# EAGLE library part FT232H (library ftdi)
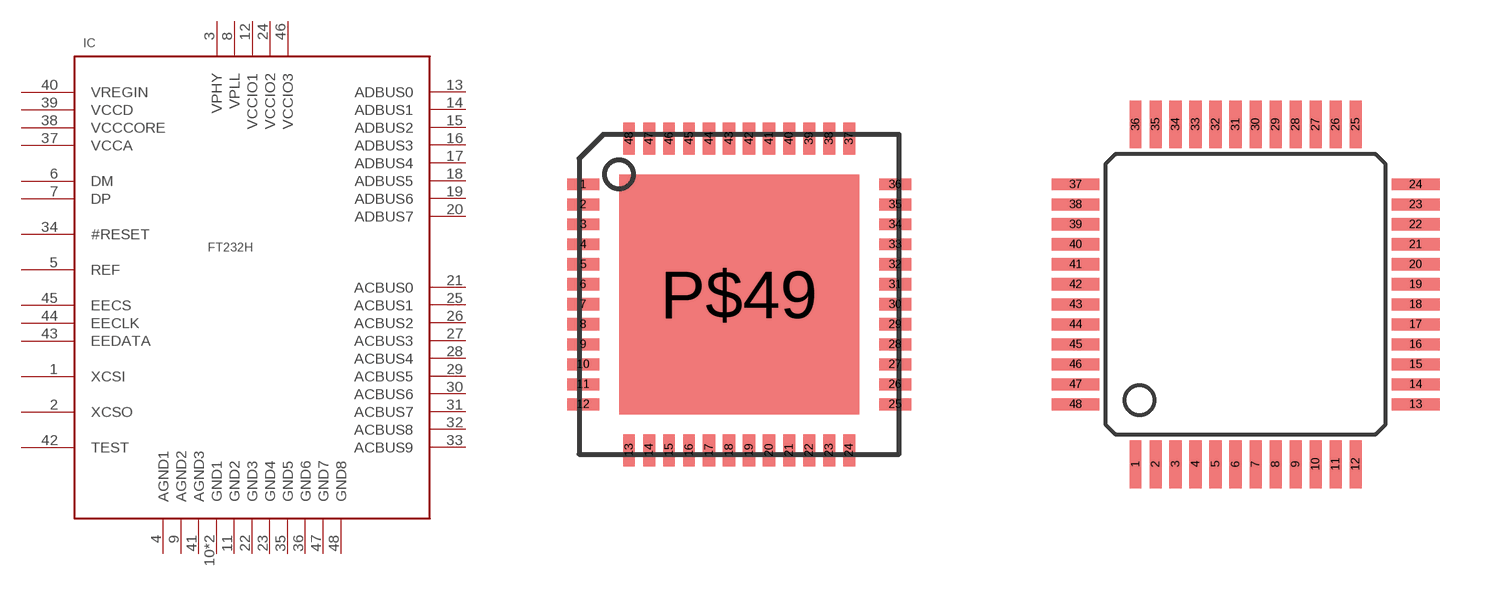
[diagram p0: symbol with the pads of QFN48-8X8; footprints QFN48-8X8, QFP48-7X7]

Designator prefix IC

## FT232H_QFN48  [QFN48-8X8]
1  XCSI  in
2  XCSO  out
3  VPHY  pwr
4  AGND1  pwr
5  REF  in
6  DM
7  DP
8  VPLL  pwr
9  AGND2  pwr
10  GND1  pwr
11  GND2  pwr
12  VCCIO1  pwr
13  ADBUS0  out
14  ADBUS1  in
15  ADBUS2  out
16  ADBUS3  in
17  ADBUS4  out
18  ADBUS5  in
19  ADBUS6  in
20  ADBUS7  in
21  ACBUS0
22  GND3  pwr
23  GND4  pwr
24  VCCIO2  pwr
25  ACBUS1
26  ACBUS2
27  ACBUS3
28  ACBUS4
29  ACBUS5
30  ACBUS6
31  ACBUS7
32  ACBUS8
33  ACBUS9
34  #RESET  in
35  GND5  pwr
36  GND6  pwr
37  VCCA  pwr
38  VCCCORE  pwr
39  VCCD  pwr
40  VREGIN  pwr
41  AGND3  pwr
42  TEST  in
43  EEDATA
44  EECLK  out
45  EECS
46  VCCIO3  pwr
47  GND7  pwr
48  GND8  pwr
P$49  GND1  pwr

## FT232H_QFP48  [QFP48-7X7]
1  XCSI  in
2  XCSO  out
3  VPHY  pwr
4  AGND1  pwr
5  REF  in
6  DM
7  DP
8  VPLL  pwr
9  AGND2  pwr
10  GND1  pwr
11  GND2  pwr
12  VCCIO1  pwr
13  ADBUS0  out
14  ADBUS1  in
15  ADBUS2  out
16  ADBUS3  in
17  ADBUS4  out
18  ADBUS5  in
19  ADBUS6  in
20  ADBUS7  in
21  ACBUS0
22  GND3  pwr
23  GND4  pwr
24  VCCIO2  pwr
25  ACBUS1
26  ACBUS2
27  ACBUS3
28  ACBUS4
29  ACBUS5
30  ACBUS6
31  ACBUS7
32  ACBUS8
33  ACBUS9
34  #RESET  in
35  GND5  pwr
36  GND6  pwr
37  VCCA  pwr
38  VCCCORE  pwr
39  VCCD  pwr
40  VREGIN  pwr
41  AGND3  pwr
42  TEST  in
43  EEDATA
44  EECLK  out
45  EECS
46  VCCIO3  pwr
47  GND7  pwr
48  GND8  pwr

## Footprint QFN48-8X8 (pad centres in mm)
smd 0.8 x 0.3: 1 -3.9,2.75; 2 -3.9,2.25; 3 -3.9,1.75; 4 -3.9,1.25; 5 -3.9,0.75; 6 -3.9,0.25; 7 -3.9,-0.25; 8 -3.9,-0.75; 9 -3.9,-1.25; 10 -3.9,-1.75; 11 -3.9,-2.25; 12 -3.9,-2.75; 25 3.9,-2.75; 26 3.9,-2.25; 27 3.9,-1.75; 28 3.9,-1.25; 29 3.9,-0.75; 30 3.9,-0.25; 31 3.9,0.25; 32 3.9,0.75; 33 3.9,1.25; 34 3.9,1.75; 35 3.9,2.25; 36 3.9,2.75
smd 0.3 x 0.8: 13 -2.75,-3.9; 14 -2.25,-3.9; 15 -1.75,-3.9; 16 -1.25,-3.9; 17 -0.75,-3.9; 18 -0.25,-3.9; 19 0.25,-3.9; 20 0.75,-3.9; 21 1.25,-3.9; 22 1.75,-3.9; 23 2.25,-3.9; 24 2.75,-3.9; 37 2.75,3.9; 38 2.25,3.9; 39 1.75,3.9; 40 1.25,3.9; 41 0.75,3.9; 42 0.25,3.9; 43 -0.25,3.9; 44 -0.75,3.9; 45 -1.25,3.9; 46 -1.75,3.9; 47 -2.25,3.9; 48 -2.75,3.9
smd 6 x 6: P$49 0,0

## Footprint QFP48-7X7 (pad centres in mm)
smd 0.3 x 1.2: 1 -2.75,-4.25; 2 -2.25,-4.25; 3 -1.75,-4.25; 4 -1.25,-4.25; 5 -0.75,-4.25; 6 -0.25,-4.25; 7 0.25,-4.25; 8 0.75,-4.25; 9 1.25,-4.25; 10 1.75,-4.25; 11 2.25,-4.25; 12 2.75,-4.25; 25 2.75,4.25; 26 2.25,4.25; 27 1.75,4.25; 28 1.25,4.25; 29 0.75,4.25; 30 0.25,4.25; 31 -0.25,4.25; 32 -0.75,4.25; 33 -1.25,4.25; 34 -1.75,4.25; 35 -2.25,4.25; 36 -2.75,4.25
smd 1.2 x 0.3: 13 4.25,-2.75; 14 4.25,-2.25; 15 4.25,-1.75; 16 4.25,-1.25; 17 4.25,-0.75; 18 4.25,-0.25; 19 4.25,0.25; 20 4.25,0.75; 21 4.25,1.25; 22 4.25,1.75; 23 4.25,2.25; 24 4.25,2.75; 37 -4.25,2.75; 38 -4.25,2.25; 39 -4.25,1.75; 40 -4.25,1.25; 41 -4.25,0.75; 42 -4.25,0.25; 43 -4.25,-0.25; 44 -4.25,-0.75; 45 -4.25,-1.25; 46 -4.25,-1.75; 47 -4.25,-2.25; 48 -4.25,-2.75